# Altium integrated library EEEFP1E100AR.IntLib: 1 symbol
Pins are listed as number, name and electrical type; pins without a type are passive.

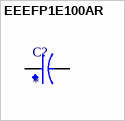
[diagram p0: symbol EEEFP1E100AR]

## EEEFP1E100AR
designator C?
10ÂµF 25V Aluminum Electrolytic Capacitors Radial, Can - SMD 850mOhm @ 100kHz 2000 Hrs @ 105Â°C; MP: EEE-FP1E100AR; MF: Panasonic Electronic; SnapEDA_Link: https://www.snapeda.com/parts/EEE-FP1E100AR/Panasonic%20Electronic%20Components/view-part/2301717/?ref=snap; Value: *; Availability: In Stock; Purchase-URL: https://pricing.snapeda.com/search/part/EEE-FP1E100AR/?ref=eda; Check_prices: https://www.snapeda.com/parts/EEE-FP1E100AR/Panasonic%20Electronic%20Components/view-part/2301717/?ref=eda; Package: RADIAL-2 Panasonic; Price: None
footprint CAP_EEEFP1E100AR
pins: 1, 2